# EAGLE library part LM27762DSST (library Elektronik_lib)
Low-Noise Positive- and Negative-Output Charge Pump With Integrated LDO Source: Datasheet <http://www.ti.com/lit/ds/symlink/lm27762.pdf>
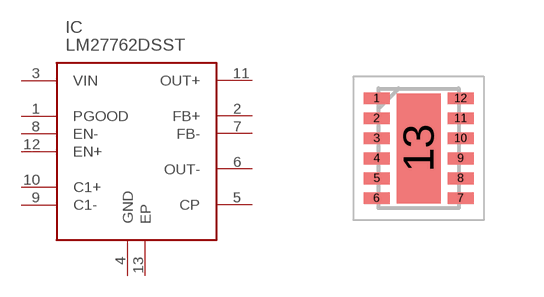
[diagram p11: symbol with the pads of SON50P200X300X80-13N; footprint SON50P200X300X80-13N]

Designator prefix IC

## LM27762DSST (ARROW_PART_NUMBER: LM27762DSST; ARROW_PRICE-STOCK: https://www.arrow.com/en/products/lm27762dsst/texas-instruments?region=nac; DESCRIPTION: Low-Noise Positive- and Negative-Output Charge Pump With Integrated LDO; HEIGHT: 0.8mm; MANUFACTURER_NAME: Texas Instruments; MANUFACTURER_PART_NUMBER: LM27762DSST; MOUSER_PART_NUMBER: 595-LM27762DSST; MOUSER_PRICE-STOCK: https://www.mouser.co.uk/ProductDetail/Texas-Instruments/LM27762DSST?qs=vcbl%252BK4rRlcgKmrBHASI8g%3D%3D)  [SON50P200X300X80-13N]
1  PGOOD
2  FB+
3  VIN
4  GND
5  CP
6  OUT-
7  FB-
8  EN-
9  C1-
10  C1+
11  OUT+
12  EN+
13  EP

## Footprint SON50P200X300X80-13N (pad centres in mm)
DSS0012B12
smd 0.65 x 0.3: 1 -1.05,1.25; 2 -1.05,0.75; 3 -1.05,0.25; 4 -1.05,-0.25; 5 -1.05,-0.75; 6 -1.05,-1.25; 7 1.05,-1.25; 8 1.05,-0.75; 9 1.05,-0.25; 10 1.05,0.25; 11 1.05,0.75; 12 1.05,1.25
smd 1.1 x 2.75: 13 0,0